# Altium schematic symbol library Voltage Regulator - Switchmode.SchLib: 70 symbols (part 1 of 2)
Pins are listed as number, name and electrical type; pins without a type are passive.

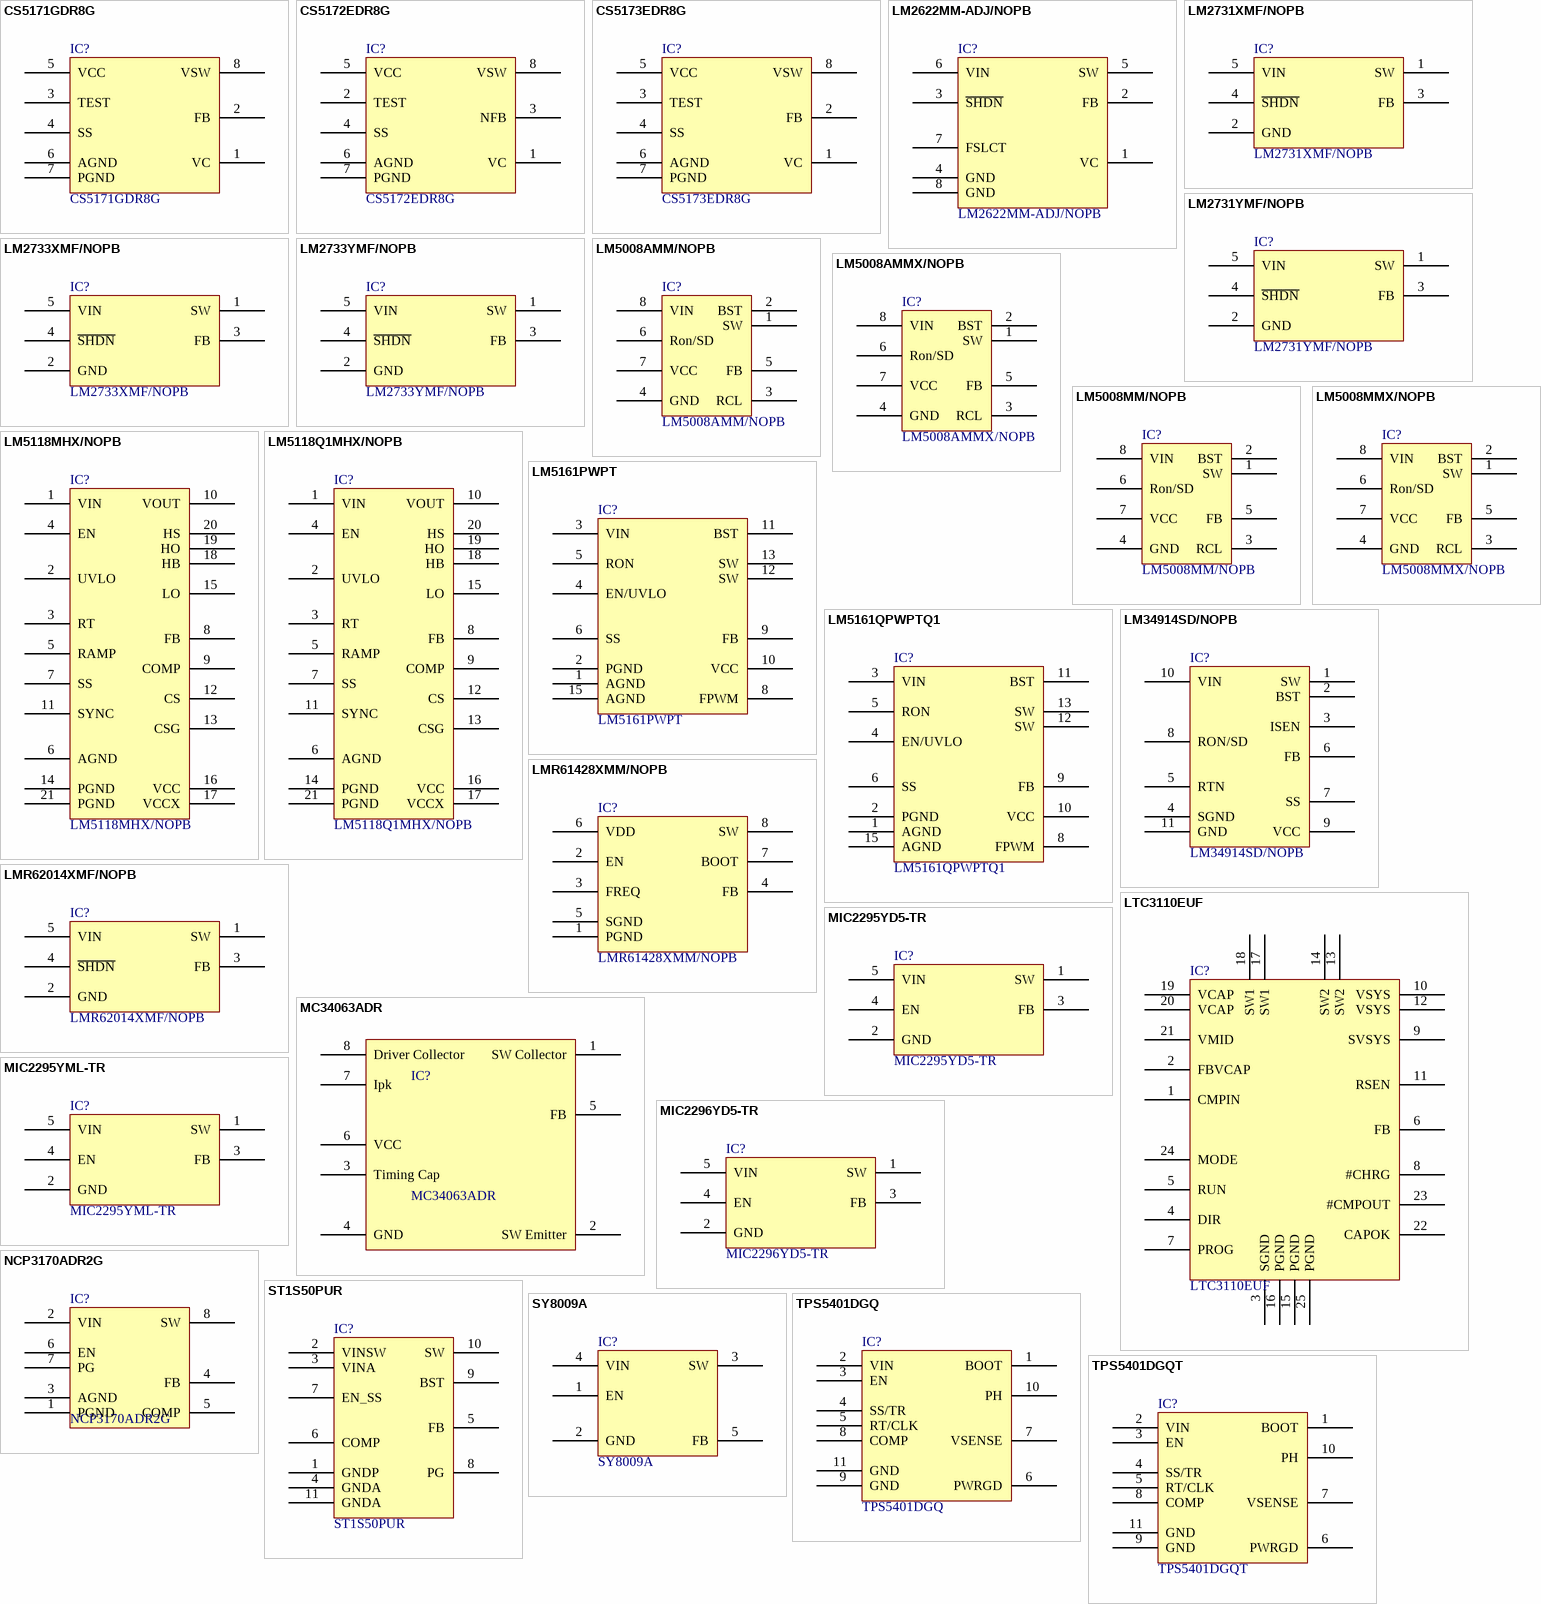
[diagram p0: symbols CS5171GDR8G to TPS5401DGQT]

## CS5171GDR8G
designator IC?
IC REG MULT CONFIG INV ADJ 8SOIC; Manufacturer: ON Semiconductor; Function: Step-Up, Step-Down, Step-Up/Step-Down; Output Configuration: Positive or Negative; Topology: Buck, Boost, Flyback, Forward Converter, SEPIC; Output Type: Adjustable; Number Of Outputs: 1; Voltage - Input (Min): 2.7V; Voltage - Input (Max): 30V; Voltage - Output (Min/Fixed): 1.28V; Voltage - Output (Max): 40V (Switch); Current Output: 1.5A (Switch); Frequency - Switching: 280kHz; Synchronous Rectifier: No; Part Number: CS5171GDR8G; PartId: 9372; Supplier 1: Digi-Key; Supplier Part Number 1: CS5171GDR8GOSTR-ND; ComponentLink1Description: Datasheet; ComponentLink1URL: http://www.onsemi.com/pub_link/Collateral/CS5171-D.PDF; ComponentLink2Description: Digi-Key Listing; ComponentLink2URL: http://www.digikey.com/product-detail/en/CS5171GDR8G/CS5171GDR8GOSTR-ND/918423; Device Package: 8-SOIC (0.154", 3.90mm Width); Price: 0.945; Series: -; Operating Temperature: 0C ~ 125C (TJ)
footprint ON SEMI SO-8
pins: 1 VC, 2 FB, 3 TEST, 4 SS, 5 VCC, 6 AGND, 7 PGND, 8 VSW

## CS5172EDR8G
designator IC?
IC REG MULT CONFIG INV ADJ 8SOIC; Manufacturer: ON Semiconductor; Function: Step-Up, Step-Down, Step-Up/Step-Down; Output Configuration: Positive or Negative; Topology: Buck, Boost, Flyback, Forward Converter, SEPIC; Output Type: Adjustable; Number Of Outputs: 1; Voltage - Input (Min): 2.7V; Voltage - Input (Max): 30V; Voltage - Output (Min/Fixed): -2.45V; Voltage - Output (Max): -40V (Switch); Current Output: 1.5A (Switch); Frequency - Switching: 280kHz; Synchronous Rectifier: No; Part Number: CS5172EDR8G; PartId: 9374; Supplier 1: Digi-Key; Supplier Part Number 1: CS5172EDR8GOSTR-ND; ComponentLink1Description: Datasheet; ComponentLink1URL: http://www.onsemi.com/pub_link/Collateral/CS5171-D.PDF; ComponentLink2Description: Digi-Key Listing; ComponentLink2URL: http://www.digikey.com/product-detail/en/CS5172EDR8G/CS5172EDR8GOSTR-ND/918424; Device Package: 8-SOIC (0.154", 3.90mm Width); Price: 0.972; Series: -; Operating Temperature: -40C ~ 125C (TJ)
footprint ON SEMI SO-8
pins: 1 VC, 2 TEST, 3 NFB, 4 SS, 5 VCC, 6 AGND, 7 PGND, 8 VSW

## CS5173EDR8G
designator IC?
IC REG MULT CONFIG INV ADJ 8SOIC; Manufacturer: ON Semiconductor; Function: Step-Up, Step-Down, Step-Up/Step-Down; Output Configuration: Positive or Negative; Topology: Buck, Boost, Flyback, Forward Converter, SEPIC; Output Type: Adjustable; Number Of Outputs: 1; Voltage - Input (Min): 2.7V; Voltage - Input (Max): 30V; Voltage - Output (Min/Fixed): 1.28V; Voltage - Output (Max): 40V (Switch); Current Output: 1.5A (Switch); Frequency - Switching: 560kHz; Synchronous Rectifier: No; Part Number: CS5173EDR8G; PartId: 9373; Supplier 1: Digi-Key; Supplier Part Number 1: CS5173EDR8GOSTR-ND; ComponentLink1Description: Datasheet; ComponentLink1URL: http://www.onsemi.com/pub_link/Collateral/CS5171-D.PDF; ComponentLink2Description: Digi-Key Listing; ComponentLink2URL: http://www.digikey.com/product-detail/en/CS5173EDR8G/CS5173EDR8GOSTR-ND/918426; Device Package: 8-SOIC (0.154", 3.90mm Width); Price: 0.972; Series: -; Operating Temperature: -40C ~ 125C (TJ)
footprint ON SEMI SO-8
pins: 1 VC, 2 FB, 3 TEST, 4 SS, 5 VCC, 6 AGND, 7 PGND, 8 VSW

## LM2622MM-ADJ/NOPB
designator IC?
IC REG BOOST ADJ 1A 8VSSOP; Manufacturer: Texas Instruments; Function: Step-Up; Output Configuration: Positive; Output Type: Adjustable; Number Of Outputs: 1; Voltage - Input (Min): 2V; Voltage - Input (Max): 12V; Voltage - Output (Min/Fixed): 1.26V; Current Output: 1A (Switch); Frequency - Switching: 600kHz, 1.3MHz; Synchronous Rectifier: No; Part Number: LM2622MM-ADJ/NOPB; PartId: 9371; Supplier 1: Digi-Key; Supplier Part Number 1: LM2622MM-ADJ/NOPBTR-ND; ComponentLink1Description: Datasheet; ComponentLink1URL: http://www.ti.com/lit/ds/symlink/lm2622.pdf; ComponentLink2Description: Digi-Key Listing; ComponentLink2URL: http://www.digikey.com/product-detail/en/LM2622MM-ADJ%2FNOPB/LM2622MM-ADJ%2FNOPBTR-ND/355385; Device Package: 8-TSSOP, 8-MSOP (0.118", 3.00mm Width); Price: 0.9671; Series: -; Operating Temperature: -40C ~ 125C (TJ); Topology: Boost; Voltage - Output (Max): 12V
footprint TI VSSOP-8 DGK
pins: 1 VC, 2 FB, 3 ~{SHDN}, 4 GND, 5 SW, 6 VIN, 7 FSLCT, 8 GND

## LM2731XMF/NOPB
designator IC?
IC REG BOOST ADJ 1.8A SOT23-5; Manufacturer: Texas Instruments; Function: Step-Up; Output Configuration: Positive; Output Type: Adjustable; Number Of Outputs: 1; Voltage - Input (Min): 2.7V; Voltage - Input (Max): 14V; Voltage - Output (Max): 22V (Switch); Current Output: 1.8A (Switch); Frequency - Switching: 1.6MHz; Synchronous Rectifier: No; Part Number: LM2731XMF/NOPB; PartId: 9378; Supplier 1: Digi-Key; Supplier Part Number 1: LM2731XMF/NOPBTR-ND; ComponentLink1Description: Datasheet; ComponentLink1URL: http://www.ti.com/lit/ds/symlink/lm2731.pdf; ComponentLink2Description: Digi-Key Listing; ComponentLink2URL: http://www.digikey.com/product-detail/en/LM2731XMF%2FNOPB/LM2731XMF%2FNOPBTR-ND/565162; Device Package: SC-74A, SOT-753; Price: 1.0125; Series: -; Operating Temperature: -40C ~ 125C (TJ); Topology: Boost; Voltage - Output (Min/Fixed): 2.7V
footprint TI SOT-23-5 DBV
pins: 1 SW, 2 GND, 3 FB, 4 ~{SHDN}, 5 VIN

## LM2731YMF/NOPB
designator IC?
IC REG BOOST ADJ 1.8A SOT23-5; Manufacturer: Texas Instruments; Function: Step-Up; Output Configuration: Positive; Output Type: Adjustable; Number Of Outputs: 1; Voltage - Input (Min): 2.7V; Voltage - Input (Max): 14V; Voltage - Output (Max): 22V (Switch); Current Output: 1.8A (Switch); Frequency - Switching: 600kHz; Synchronous Rectifier: No; Part Number: LM2731YMF/NOPB; PartId: 9379; Supplier 1: Digi-Key; Supplier Part Number 1: LM2731YMF/NOPBTR-ND; ComponentLink1Description: Datasheet; ComponentLink1URL: http://www.ti.com/lit/ds/symlink/lm2731.pdf; ComponentLink2Description: Digi-Key Listing; ComponentLink2URL: http://www.digikey.com/product-detail/en/LM2731YMF%2FNOPB/LM2731YMF%2FNOPBTR-ND/565163; Device Package: SC-74A, SOT-753; Price: 1.0125; Series: -; Operating Temperature: -40C ~ 125C (TJ); Topology: Boost; Voltage - Output (Min/Fixed): 2.7V
footprint TI SOT-23-5 DBV
pins: 1 SW, 2 GND, 3 FB, 4 ~{SHDN}, 5 VIN

## LM2733XMF/NOPB
designator IC?
IC REG BOOST ADJ 1A SOT23-5; Manufacturer: Texas Instruments; Function: Step-Up; Output Configuration: Positive; Output Type: Adjustable; Number Of Outputs: 1; Voltage - Input (Min): 2.7V; Voltage - Input (Max): 14V; Voltage - Output (Max): 40V (Switch); Current Output: 1A (Switch); Frequency - Switching: 1.6MHz; Synchronous Rectifier: No; Part Number: LM2733XMF/NOPB; PartId: 9370; Supplier 1: Digi-Key; Supplier Part Number 1: LM2733XMF/NOPBTR-ND; ComponentLink1Description: Datasheet; ComponentLink1URL: http://www.ti.com/lit/ds/symlink/lm2733.pdf; ComponentLink2Description: Digi-Key Listing; ComponentLink2URL: http://www.digikey.com/product-detail/en/LM2733XMF%2FNOPB/LM2733XMF%2FNOPBTR-ND/565164; Device Package: SC-74A, SOT-753; Price: 0.9562; Series: -; Operating Temperature: -40C ~ 125C (TJ); Topology: Boost; Voltage - Output (Min/Fixed): 2.7V
footprint TI SOT-23-5 DBV
pins: 1 SW, 2 GND, 3 FB, 4 ~{SHDN}, 5 VIN

## LM2733YMF/NOPB
designator IC?
IC REG BOOST ADJ 1A SOT23-5; Manufacturer: Texas Instruments; Function: Step-Up; Output Configuration: Positive; Output Type: Adjustable; Number Of Outputs: 1; Voltage - Input (Min): 2.7V; Voltage - Input (Max): 14V; Voltage - Output (Max): 40V (Switch); Current Output: 1A (Switch); Frequency - Switching: 600kHz; Synchronous Rectifier: No; Part Number: LM2733YMF/NOPB; PartId: 9369; Supplier 1: Digi-Key; Supplier Part Number 1: LM2733YMF/NOPBTR-ND; ComponentLink1Description: Datasheet; ComponentLink1URL: http://www.ti.com/lit/ds/symlink/lm2733.pdf; ComponentLink2Description: Digi-Key Listing; ComponentLink2URL: http://www.digikey.com/product-detail/en/LM2733YMF%2FNOPB/LM2733YMF%2FNOPBTR-ND/565165; Device Package: SC-74A, SOT-753; Price: 0.9562; Series: -; Operating Temperature: -40C ~ 125C (TJ); Topology: Boost; Voltage - Output (Min/Fixed): 2.7V
footprint TI SOT-23-5 DBV
pins: 1 SW, 2 GND, 3 FB, 4 ~{SHDN}, 5 VIN

## LM5008AMM/NOPB
designator IC?
IC REG BUCK ADJ 0.35A 8VSSOP; Manufacturer: Texas Instruments; Function: Step-Down; Output Configuration: Positive; Output Type: Adjustable; Number Of Outputs: 1; Voltage - Input (Min): 6V; Voltage - Input (Max): 95V; Voltage - Output (Min/Fixed): 2.5V; Voltage - Output (Max): 75V; Current Output: 350mA; Frequency - Switching: 50kHz ~ 1.1MHz; Synchronous Rectifier: No; Part Number: LM5008AMM/NOPB; PartId: 27913; Supplier 1: Digi-Key; Supplier Part Number 1: LM5008AMM/NOPBCT-ND; ComponentLink1Description: Datasheet; ComponentLink1URL: //media.digikey.com/pdf/Data%20Sheets/Texas%20Instruments%20PDFs/LM5008A_March2013.pdf; ComponentLink2Description: Digi-Key Listing; ComponentLink2URL: https://www.digikey.com/product-detail/en/texas-instruments/LM5008AMM-NOPB/LM5008AMM-NOPBCT-ND/2075647; Device Package: 8-TSSOP, 8-MSOP (0.118", 3.00mm Width); Price: 2.95; Series: -; Operating Temperature: -40C ~ 125C (TJ); Topology: Buck
footprint TI VSSOP-8 DGK
pins: 1 SW, 2 BST, 3 RCL, 4 GND, 5 FB, 6 Ron/SD, 7 VCC, 8 VIN

## LM5008AMMX/NOPB
designator IC?
IC REG BUCK ADJ 0.35A 8VSSOP; Manufacturer: Texas Instruments; Function: Step-Down; Output Configuration: Positive; Output Type: Adjustable; Number Of Outputs: 1; Voltage - Input (Min): 6V; Voltage - Input (Max): 95V; Voltage - Output (Min/Fixed): 2.5V; Voltage - Output (Max): 75V; Current Output: 350mA; Frequency - Switching: 50kHz ~ 1.1MHz; Synchronous Rectifier: No; Part Number: LM5008AMMX/NOPB; PartId: 27915; Supplier 1: Digi-Key; Supplier Part Number 1: 296-44665-1-ND; ComponentLink1Description: Datasheet; ComponentLink1URL: //media.digikey.com/pdf/Data%20Sheets/Texas%20Instruments%20PDFs/LM5008A_March2013.pdf; ComponentLink2Description: Digi-Key Listing; ComponentLink2URL: https://www.digikey.com/product-detail/en/texas-instruments/LM5008AMMX-NOPB/296-44665-1-ND/6165014; Device Package: 8-TSSOP, 8-MSOP (0.118", 3.00mm Width); Price: 2.95; Series: -; Operating Temperature: -40C ~ 125C (TJ); Topology: Buck
footprint TI VSSOP-8 DGK
pins: 1 SW, 2 BST, 3 RCL, 4 GND, 5 FB, 6 Ron/SD, 7 VCC, 8 VIN

## LM5008MM/NOPB
designator IC?
IC REG BUCK ADJ 0.35A 8VSSOP; Manufacturer: Texas Instruments; Function: Step-Down; Output Configuration: Positive; Output Type: Adjustable; Number Of Outputs: 1; Voltage - Input (Min): 9.5V; Voltage - Input (Max): 95V; Voltage - Output (Min/Fixed): 2.5V; Voltage - Output (Max): 75V; Current Output: 350mA; Frequency - Switching: 50kHz ~ 600kHz; Synchronous Rectifier: No; Part Number: LM5008MM/NOPB; PartId: 27912; Supplier 1: Digi-Key; Supplier Part Number 1: LM5008MM/NOPBCT-ND; ComponentLink1Description: Datasheet; ComponentLink1URL: http://www.ti.com/lit/ds/symlink/lm5008.pdf; ComponentLink2Description: Digi-Key Listing; ComponentLink2URL: https://www.digikey.com/product-detail/en/texas-instruments/LM5008MM-NOPB/LM5008MM-NOPBCT-ND/665720; Device Package: 8-TSSOP, 8-MSOP (0.118", 3.00mm Width); Price: 2.83; Series: -; Operating Temperature: -40C ~ 125C (TJ); Topology: Buck
footprint TI VSSOP-8 DGK
pins: 1 SW, 2 BST, 3 RCL, 4 GND, 5 FB, 6 Ron/SD, 7 VCC, 8 VIN

## LM5008MMX/NOPB
designator IC?
IC REG BUCK ADJ 0.35A 8VSSOP; Manufacturer: Texas Instruments; Function: Step-Down; Output Configuration: Positive; Output Type: Adjustable; Number Of Outputs: 1; Voltage - Input (Min): 9.5V; Voltage - Input (Max): 95V; Voltage - Output (Min/Fixed): 2.5V; Voltage - Output (Max): 75V; Current Output: 350mA; Frequency - Switching: 50kHz ~ 600kHz; Synchronous Rectifier: No; Part Number: LM5008MMX/NOPB; PartId: 27914; Supplier 1: Digi-Key; Supplier Part Number 1: 296-35288-1-ND; ComponentLink1Description: Datasheet; ComponentLink1URL: http://www.ti.com/lit/ds/symlink/lm5008.pdf; ComponentLink2Description: Digi-Key Listing; ComponentLink2URL: https://www.digikey.com/product-detail/en/texas-instruments/LM5008MMX-NOPB/296-35288-1-ND/3738996; Device Package: 8-TSSOP, 8-MSOP (0.118", 3.00mm Width); Price: 2.83; Series: -; Operating Temperature: -40C ~ 125C (TJ); Topology: Buck
footprint TI VSSOP-8 DGK
pins: 1 SW, 2 BST, 3 RCL, 4 GND, 5 FB, 6 Ron/SD, 7 VCC, 8 VIN

## LM5118MHX/NOPB
designator IC?
IC REG CTRLR BCK/BCK-BST 20TSSOP; Manufacturer: Texas Instruments; Function: Step-Down, Step-Up/Step-Down; Output Configuration: Positive; Topology: Buck, Buck-Boost; Output Type: Transistor Driver; Number Of Outputs: 1; Frequency - Switching: 200kHz, 515kHz; Synchronous Rectifier: No; Part Number: LM5118MHX/NOPB; PartId: 15708; Supplier 1: Digi-Key; Supplier Part Number 1: LM5118MHX/NOPBTR-ND; ComponentLink1Description: Datasheet; ComponentLink1URL: http://www.ti.com/lit/ds/symlink/lm5118.pdf; ComponentLink2Description: Digi-Key Listing; ComponentLink2URL: http://www.digikey.com/product-detail/en/texas-instruments/LM5118MHX%2FNOPB/LM5118MHX%2FNOPBTR-ND/1871902; Device Package: 20-TSSOP (0.173", 4.40mm Width) Exposed Pad; Price: 2.6775; Type: DC DC Switching Controllers; Series: -; Operating Temperature: -40C ~ 125C (TJ)
footprint TI HTSSOP-20EP MHX
pins: 1 VIN, 2 UVLO, 3 RT, 4 EN, 5 RAMP, 6 AGND, 7 SS, 8 FB, 9 COMP, 10 VOUT, 11 SYNC, 12 CS, 13 CSG, 14 PGND, 15 LO, 16 VCC, 17 VCCX, 18 HB, 19 HO, 20 HS, 21 PGND

## LM5118Q1MHX/NOPB
designator IC?
IC REG CTRLR BCK/BCK-BST 20TSSOP; Manufacturer: Texas Instruments; Function: Step-Down, Step-Up/Step-Down; Output Configuration: Positive; Topology: Buck, Buck-Boost; Output Type: Transistor Driver; Number Of Outputs: 1; Frequency - Switching: 200kHz, 515kHz; Synchronous Rectifier: No; Part Number: LM5118Q1MHX/NOPB; PartId: 15709; Supplier 1: Digi-Key; Supplier Part Number 1: 296-43600-2-ND; ComponentLink1Description: Datasheet; ComponentLink1URL: http://www.ti.com/lit/ds/symlink/lm5118.pdf; ComponentLink2Description: Digi-Key Listing; ComponentLink2URL: http://www.digikey.com/product-detail/en/texas-instruments/LM5118Q1MHX%2FNOPB/296-43600-2-ND/2179704; Device Package: 20-TSSOP (0.173", 4.40mm Width) Exposed Pad; Price: 3.0937; Type: DC DC Switching Controllers; Series: Automotive, AEC-Q100; Operating Temperature: -40C ~ 125C (TJ)
footprint TI HTSSOP-20EP MHX
pins: 1 VIN, 2 UVLO, 3 RT, 4 EN, 5 RAMP, 6 AGND, 7 SS, 8 FB, 9 COMP, 10 VOUT, 11 SYNC, 12 CS, 13 CSG, 14 PGND, 15 LO, 16 VCC, 17 VCCX, 18 HB, 19 HO, 20 HS, 21 PGND

## LM5161PWPT
designator IC?
IC REG BCK FLYBCK ISO 14HTSSOP; Manufacturer: Texas Instruments; Function: Step-Down; Output Configuration: Positive, Isolation Capable; Topology: Buck, Flyback; Output Type: Adjustable; Number Of Outputs: 1; Voltage - Input (Min): 4.5V; Voltage - Input (Max): 100V; Voltage - Output (Min/Fixed): 2V; Voltage - Output (Max): 92V; Current Output: 1A; Frequency - Switching: 50kHz ~ 1MHz; Synchronous Rectifier: Yes; Part Number: LM5161PWPT; PartId: 21611; Supplier 1: Digi-Key; Supplier Part Number 1: 296-44860-1-ND; ComponentLink1Description: Datasheet; ComponentLink1URL: http://www.ti.com/lit/ds/symlink/lm5161.pdf; ComponentLink2Description: Digi-Key Listing; ComponentLink2URL: http://www.digikey.com/product-detail/en/texas-instruments/LM5161PWPT/296-44860-1-ND/6207398; Device Package: 14-TSSOP (0.173", 4.40mm Width) Exposed Pad; Price: 4.8; Series: -; Operating Temperature: -40C ~ 125C (TJ)
footprint TI HTSSOP-14 PWP
pins: 1 AGND, 2 PGND, 3 VIN, 4 EN/UVLO, 5 RON, 6 SS, 8 FPWM, 9 FB, 10 VCC, 11 BST, 12 SW, 13 SW, 15 AGND

## LM5161QPWPTQ1
designator IC?
IC REG BCK FLYBCK ISO 14HTSSOP; Manufacturer: Texas Instruments; Function: Step-Down; Output Configuration: Positive, Isolation Capable; Topology: Buck, Flyback; Output Type: Adjustable; Number Of Outputs: 1; Voltage - Input (Min): 4.5V; Voltage - Input (Max): 100V; Voltage - Output (Min/Fixed): 2V; Voltage - Output (Max): 92V; Current Output: 1A; Frequency - Switching: 50kHz ~ 1MHz; Synchronous Rectifier: Yes; Part Number: LM5161QPWPTQ1; PartId: 21612; Supplier 1: Digi-Key; Supplier Part Number 1: 296-44861-1-ND; ComponentLink1Description: Datasheet; ComponentLink1URL: http://www.ti.com/lit/ds/symlink/lm5161-q1.pdf; ComponentLink2Description: Digi-Key Listing; ComponentLink2URL: http://www.digikey.com/product-detail/en/texas-instruments/LM5161QPWPTQ1/296-44861-1-ND/6207399; Device Package: 14-TSSOP (0.173", 4.40mm Width) Exposed Pad; Price: 5.56; Series: Automotive, AEC-Q100; Operating Temperature: -40C ~ 150C (TJ)
footprint TI HTSSOP-14 PWP
pins: 1 AGND, 2 PGND, 3 VIN, 4 EN/UVLO, 5 RON, 6 SS, 8 FPWM, 9 FB, 10 VCC, 11 BST, 12 SW, 13 SW, 15 AGND

## LM34914SD/NOPB
designator IC?
IC REG BUCK ADJ 1.25A 10WSON; Manufacturer: Texas Instruments; Function: Step-Down; Output Configuration: Positive; Output Type: Adjustable; Number Of Outputs: 1; Voltage - Input (Min): 8V; Voltage - Input (Max): 40V; Voltage - Output (Min/Fixed): 2.5V; Voltage - Output (Max): 37V; Frequency - Switching: 1.3MHz; Synchronous Rectifier: No; Part Number: LM34914SD/NOPB; PartId: 14587; Supplier 1: Digi-Key; Supplier Part Number 1: LM34914SD/NOPBTR-ND; ComponentLink1Description: Datasheet; ComponentLink1URL: http://www.ti.com/lit/ds/symlink/lm34914.pdf; ComponentLink2Description: Digi-Key Listing; ComponentLink2URL: http://www.digikey.com/product-detail/en/texas-instruments/LM34914SD%2FNOPB/LM34914SD%2FNOPBTR-ND/1836014; Device Package: 10-WFDFN Exposed Pad; Price: 1.526; Type: DC DC Switching Regulators; Series: -; Operating Temperature: -40C ~ 125C (TJ); Topology: Buck; Current Output: 1.25A
footprint TI WSON-10 SD
pins: 1 SW, 2 BST, 3 ISEN, 4 SGND, 5 RTN, 6 FB, 7 SS, 8 RON/SD, 9 VCC, 10 VIN, 11 GND

## LMR61428XMM/NOPB
designator IC?
IC REG BOOST ADJ 2.85A 8VSSOP; Manufacturer: Texas Instruments; Function: Step-Up; Output Configuration: Positive; Output Type: Adjustable; Number Of Outputs: 1; Voltage - Input (Min): 1.2V; Voltage - Input (Max): 14V; Voltage - Output (Min/Fixed): 1.24V; Current Output: 2.85A (Switch); Frequency - Switching: 300kHz ~ 2MHz; Synchronous Rectifier: No; Part Number: LMR61428XMM/NOPB; PartId: 9367; Supplier 1: Digi-Key; Supplier Part Number 1: LMR61428XMM/NOPBTR-ND; ComponentLink1Description: Datasheet; ComponentLink1URL: http://www.ti.com/lit/ds/symlink/lmr61428.pdf; ComponentLink2Description: Digi-Key Listing; ComponentLink2URL: http://www.digikey.com/product-detail/en/LMR61428XMM%2FNOPB/LMR61428XMM%2FNOPBTR-ND/3693587; Device Package: 8-TSSOP, 8-MSOP (0.118", 3.00mm Width); Price: 0.7312; Operating Temperature: -40C ~ 85C (TA); Topology: Boost; Voltage - Output (Max): 14V
footprint TI VSSOP-8 DGK
pins: 1 PGND, 2 EN, 3 FREQ, 4 FB, 5 SGND, 6 VDD, 7 BOOT, 8 SW

## LMR62014XMF/NOPB
designator IC?
IC REG BOOST ADJ 1.8A SOT23-5; Manufacturer: Texas Instruments; Function: Step-Up; Output Configuration: Positive; Output Type: Adjustable; Number Of Outputs: 1; Voltage - Input (Min): 2.7V; Voltage - Input (Max): 14V; Voltage - Output (Min/Fixed): 3V; Voltage - Output (Max): 20V; Current Output: 1.8A (Switch); Frequency - Switching: 1.6MHz; Synchronous Rectifier: No; Part Number: LMR62014XMF/NOPB; PartId: 9368; Supplier 1: Digi-Key; Supplier Part Number 1: LMR62014XMF/NOPBTR-ND; ComponentLink1Description: Datasheet; ComponentLink1URL: http://www.ti.com/lit/ds/symlink/lmr62014.pdf; ComponentLink2Description: Digi-Key Listing; ComponentLink2URL: http://www.digikey.com/product-detail/en/LMR62014XMF%2FNOPB/LMR62014XMF%2FNOPBTR-ND/3179256; Device Package: SC-74A, SOT-753; Price: 0.6187; Operating Temperature: -40C ~ 125C (TJ); Topology: Boost
footprint TI SOT-23-5 DBV
pins: 1 SW, 2 GND, 3 FB, 4 ~{SHDN}, 5 VIN

## LTC3110EUF
designator IC?
IC REG BUCK BOOST ADJ 2A 24QFN; Manufacturer: Analog; Function: Buck, Boost; Output Configuration: Positive; Output Type: Adjustable; Number Of Outputs: 1; Voltage - Input (Min): 1.8V; Voltage - Input (Max): 5.25V; Frequency - Switching: 1.2MHz; Synchronous Rectifier: No; Part Number: LTC3110EUF; ComponentLink1Description: Datasheet; ComponentLink1URL: https://www.analog.com/media/en/technical-documentation/data-sheets/LTC3110.pdf; ComponentLink2Description: Digi-Key Listing; ComponentLink2URL: https://www.digikey.com/product-detail/en/texas-instruments/MC34063ADR/2https://www.digikey.com/en/products/detail/analog-devices-inc/LTC3110EUF-PBF/532148896-17765-2-ND/717431; Device Package: 24QFN; Price: 11.1; Type: DC DC Switching Regulators; Operating Temperature: -40°C ~ 125°C (TJ); Topology: Buck, Boost; Voltage - Output (Min/Fixed): 1.8V; Voltage - Output (Max): 5.25V; Current Output: 2A; Supplier 1: Digi-Key; Supplier Part Number 1: LTC3110EUF#PBF-ND
footprint ANALOG QFN-24 4x4MM (QFN, 24-Leads, Body 4.1x4.1mm (max), Pitch 0.50mm, IPC Medium Density)
pins: 1 CMPIN, 2 FBVCAP, 3 SGND, 4 DIR, 5 RUN, 6 FB, 7 PROG, 8 #CHRG, 9 SVSYS, 10 VSYS, 11 RSEN, 12 VSYS, 13 SW2, 14 SW2, 15 PGND, 16 PGND, 17 SW1, 18 SW1, 19 VCAP, 20 VCAP, 21 VMID, 22 CAPOK, 23 #CMPOUT, 24 MODE, 25 PGND

## MC34063ADR
designator IC?
IC REG BUCK BOOST INV ADJ 8SOIC; Manufacturer: Texas Instruments; Function: Buck, Boost; Output Configuration: Positive; Output Type: Adjustable; Number Of Outputs: 1; Voltage - Input (Min): 3V; Voltage - Input (Max): 40V; Voltage - Output (Min/Fixed): 1.5V; Current Output: 1.5A; Frequency - Switching: 100Khz; Synchronous Rectifier: Yes; Part Number: MC34063ADR; Supplier 1: Digi-Key; Supplier Part Number 1: 296-17765-2-ND; ComponentLink1Description: Datasheet; ComponentLink1URL: http://www.ti.com/lit/ds/symlink/mc33063a.pdf; ComponentLink2Description: Digi-Key Listing; ComponentLink2URL: https://www.digikey.com/product-detail/en/texas-instruments/MC34063ADR/296-17765-2-ND/717431; Device Package: 8SOIC; Price: 0.224; Type: DC DC Switching Regulators; Operating Temperature: 0C ~ 70C (TJ); Topology: Buck, Boost; Voltage - Output (Max): 40V
footprint ON SEMI SO-8 (SOIC, 8-Leads, Body 4.90x3.90mm, Pitch 1.27mm, IPC Medium Density)
pins: 1 SW Collector, 2 SW Emitter, 3 Timing Cap, 4 GND, 5 FB, 6 VCC, 7 Ipk, 8 Driver Collector

## MIC2295YD5-TR
designator IC?
IC REG BOOST ADJ 1.2A TSOT23-5; Manufacturer: Microchip Technology; Function: Step-Up; Output Configuration: Positive; Output Type: Adjustable; Number Of Outputs: 1; Voltage - Input (Min): 2.5V; Voltage - Input (Max): 10V; Voltage - Output (Max): 34V (Switch); Current Output: 1.2A (Switch); Frequency - Switching: 1.2MHz; Synchronous Rectifier: No; Part Number: MIC2295YD5-TR; PartId: 9375; Supplier 1: Digi-Key; Supplier Part Number 1: 576-1080-2-ND; ComponentLink1Description: Datasheet; ComponentLink1URL: http://www.micrel.com/_PDF/mic2295.pdf; ComponentLink2Description: Digi-Key Listing; ComponentLink2URL: http://www.digikey.com/product-detail/en/MIC2295YD5-TR/576-1080-2-ND/771549; Device Package: SOT-23-5 Thin, TSOT-23-5; Price: 0.98; Series: -; Operating Temperature: -40C ~ 125C (TJ); Topology: Boost; Voltage - Output (Min/Fixed): 2.5V
footprint MICREL SOT-23-5 DB5
pins: 1 SW, 2 GND, 3 FB, 4 EN, 5 VIN

## MIC2295YML-TR
designator IC?
IC REG BOOST ADJ 1.2A 8MLF; Manufacturer: Microchip Technology; Function: Step-Up; Output Configuration: Positive; Output Type: Adjustable; Number Of Outputs: 1; Voltage - Input (Min): 2.5V; Voltage - Input (Max): 10V; Voltage - Output (Max): 34V (Switch); Current Output: 1.2A (Switch); Frequency - Switching: 1.2MHz; Synchronous Rectifier: No; Part Number: MIC2295YML-TR; PartId: 9376; Supplier 1: Digi-Key; Supplier Part Number 1: 576-2658-2-ND; ComponentLink1Description: Datasheet; ComponentLink1URL: http://www.micrel.com/_PDF/mic2295.pdf; ComponentLink2Description: Digi-Key Listing; ComponentLink2URL: http://www.digikey.com/product-detail/en/MIC2295YML-TR/576-2658-2-ND/1028515; Device Package: 8-VFDFN Exposed Pad, 8-MLF; Price: 1.08; Series: -; Operating Temperature: -40C ~ 125C (TJ); Topology: Boost; Voltage - Output (Min/Fixed): 2.5V
footprint MICREL SOT-23-5 DB5
pins: 1 SW, 2 GND, 3 FB, 4 EN, 5 VIN

## MIC2296YD5-TR
designator IC?
IC REG BOOST ADJ 1.2A TSOT23-5; Manufacturer: Microchip Technology; Function: Step-Up; Output Configuration: Positive; Output Type: Adjustable; Number Of Outputs: 1; Voltage - Input (Min): 2.5V; Voltage - Input (Max): 10V; Voltage - Output (Max): 34V (Switch); Current Output: 1.2A (Switch); Frequency - Switching: 600kHz; Synchronous Rectifier: No; Part Number: MIC2296YD5-TR; PartId: 9377; Supplier 1: Digi-Key; Supplier Part Number 1: 576-2659-2-ND; ComponentLink1Description: Datasheet; ComponentLink1URL: http://www.microchip.com/mymicrochip/filehandler.aspx?ddocname=en580253; ComponentLink2Description: Digi-Key Listing; ComponentLink2URL: http://www.digikey.com/product-detail/en/MIC2296YD5-TR/576-2659-2-ND/1028518; Device Package: SOT-23-5 Thin, TSOT-23-5; Price: 0.98; Series: -; Operating Temperature: -40C ~ 125C (TJ); Topology: Boost; Voltage - Output (Min/Fixed): 2.5V
footprint MICREL SOT-23-5 DB5
pins: 1 SW, 2 GND, 3 FB, 4 EN, 5 VIN

## NCP3170ADR2G
designator IC?
IC REG BUCK ADJ 3A SYNC 8SOIC; Manufacturer: ON Semiconductor; Function: Step-Down; Output Configuration: Positive; Output Type: Adjustable; Number Of Outputs: 1; Voltage - Input (Min): 4.5V; Voltage - Input (Max): 18V; Voltage - Output (Min/Fixed): 0.8V; Voltage - Output (Max): 17.28V; Frequency - Switching: 500KHz; Synchronous Rectifier: Yes; Part Number: NCP3170ADR2G; Supplier 1: Digi-Key; Supplier Part Number 1: NCP3170ADR2GOSTR-ND; ComponentLink1Description: Datasheet; ComponentLink1URL: http://www.onsemi.com/pub/Collateral/NCP3170-D.PDF; ComponentLink2Description: Digi-Key Listing; ComponentLink2URL: https://www.digikey.com/product-detail/en/on-semiconductor/NCP3170ADR2G/NCP3170ADR2GOSTR-ND/2683804; Device Package: 8-SOIC (0.154", 3.90mm Width); Price: 0.385; Type: DC DC Switching Regulators; Series: -; Operating Temperature: -40°C ~ 85°C (TA); Topology: Buck; Current Output: 3A
footprint ON SEMI SO-8 (SOIC, 8-Leads, Body 4.90x3.90mm, Pitch 1.27mm, IPC Medium Density)
pins: 1 PGND, 2 VIN, 3 AGND, 4 FB, 5 COMP, 6 EN, 7 PG, 8 SW

## ST1S50PUR
designator IC?
IC REG BUCK ADJ 4A SYNC 8VFDFPN; Manufacturer: STMicroelectronics; Function: Step-Down; Output Configuration: Positive; Output Type: Adjustable; Number Of Outputs: 1; Voltage - Input (Min): 4V; Voltage - Input (Max): 18V; Voltage - Output (Min/Fixed): 0.8V; Voltage - Output (Max): 15.84V; Frequency - Switching: 500kHz; Synchronous Rectifier: Yes; Part Number: ST1S50PUR; PartId: 9708; Supplier 1: Digi-Key; Supplier Part Number 1: 497-14667-2-ND; ComponentLink1Description: Datasheet; ComponentLink1URL: http://www.st.com/web/en/resource/technical/document/datasheet/DM00103512.pdf; ComponentLink2Description: Digi-Key Listing; ComponentLink2URL: http://www.digikey.com/product-detail/en/stmicroelectronics/ST1S50PUR/497-14667-2-ND/4841794; Device Package: 10-VFDFN Exposed Pad; Price: 1.0125; Series: -; Operating Temperature: -40C ~ 150C (TJ); Topology: Buck; Current Output: 4A
footprint ST VFPDFN-10
pins: 1 GNDP, 2 VINSW, 3 VINA, 4 GNDA, 5 FB, 6 COMP, 7 EN_SS, 8 PG, 9 BST, 10 SW, 11 GNDA

## SY8009A
designator IC?
IC REG BUCK ADJ 2A SYNC; Manufacturer: Silergy; Function: Step-Down; Output Configuration: Positive; Output Type: Adjustable; Number Of Outputs: 1; Voltage - Input (Min): 3V; Voltage - Input (Max): 5.5V; Voltage - Output (Min/Fixed): 0.768V; Voltage - Output (Max): 5V; Frequency - Switching: 1.5Mhz; Synchronous Rectifier: Yes; Part Number: SY8009A; ComponentLink1Description: Datasheet; ComponentLink1URL: https://www.olimex.com/Products/Breadboarding/BB-PWR-8009/resources/SY8009.pdf; Device Package: SOT-23-6 Thin, TSOT-23-6; Type: DC DC Switching Regulators; Operating Temperature: -40C ~ 85C (TJ); Topology: Buck; Current Output: 2A
footprint SILERGY SOT23-5 (Footprint not found)
pins: 1 EN, 2 GND, 3 SW, 4 VIN, 5 FB

## TPS5401DGQ
designator IC?
IC REG BUCK ADJ 0.5A 10MSOP; Manufacturer: Texas Instruments; Function: Step-Down; Output Configuration: Positive; Output Type: Adjustable; Number Of Outputs: 1; Voltage - Input (Min): 3.5V; Voltage - Input (Max): 42V; Voltage - Output (Min/Fixed): 0.8V; Voltage - Output (Max): 39V; Current Output: 500mA; Frequency - Switching: 100kHz ~ 2.5MHz; Synchronous Rectifier: No; Part Number: TPS5401DGQ; PartId: 21137; Supplier 1: Digi-Key; Supplier Part Number 1: 296-34610-5-ND; ComponentLink1Description: Datasheet; ComponentLink1URL: http://www.ti.com/lit/ds/symlink/tps5401.pdf; ComponentLink2Description: Digi-Key Listing; ComponentLink2URL: https://www.digikey.com/product-detail/en/texas-instruments/TPS5401DGQ/296-34610-5-ND/2600494; Device Package: 10-TFSOP, 10-MSOP (0.118", 3.00mm Width) Exposed Pad; Price: 2.71; Series: SWIFT™, Eco-Mode™; Operating Temperature: -40C ~ 150C (TJ); Topology: Buck
footprint TI MSOP-10 DGQ
pins: 1 BOOT "A bootstrap capacitor is required between BOOT and PH. If the voltage on this capacitor is below the minimum required by the output device, the output is forced to switch off until the capacitor is refreshed.", 2 VIN (power) "Input supply voltage, 3.5 V to 42 V.", 3 EN "Enable pin, internal pullup current source. Pull below 1.2 V to disable. Float to enable. Adjust the input undervoltage lockout with two resistors.", 4 SS/TR "Slow-start and tracking. An external capacitor connected to this pin sets the output rise time. Because the voltage on this pin overrides the internal reference, it can be used for tracking and sequencing.", 5 RT/CLK "Resistor timing and external clock. An internal amplifier holds this pin at a fixed voltage when using an external resistor to ground to set the switching frequency. If the pin is pulled above the PLL upper threshold, a mode (See Datasheet)", 6 PWRGD (oc) "An open-drain output; asserts low if output voltage is low due to thermal shutdown, dropout, overvoltage or EN shutdown.", 7 VSENSE "Inverting node of the transconductance (gm) error amplifier.", 8 COMP "Error amplifier output, and input to the output switch current comparator. Connect frequency compensation components to this pin.", 9 GND (power) "Ground", 10 PH (power) "The source of the internal high-side power MOSFET", 11 GND (power) "GND pin must be electrically connected to the thermal pad on the printed circuit board for proper operation."

## TPS5401DGQT
designator IC?
IC REG BUCK ADJ 0.5A 10MSOP; Manufacturer: Texas Instruments; Function: Step-Down; Output Configuration: Positive; Output Type: Adjustable; Number Of Outputs: 1; Voltage - Input (Min): 3.5V; Voltage - Input (Max): 42V; Voltage - Output (Min/Fixed): 0.8V; Voltage - Output (Max): 39V; Current Output: 500mA; Frequency - Switching: 100kHz ~ 2.5MHz; Synchronous Rectifier: No; Part Number: TPS5401DGQT; PartId: 21136; Supplier 1: Digi-Key; Supplier Part Number 1: 296-28092-2-ND; ComponentLink1Description: Datasheet; ComponentLink1URL: http://www.ti.com/lit/ds/symlink/tps5401.pdf; ComponentLink2Description: Digi-Key Listing; ComponentLink2URL: https://www.digikey.com/product-detail/en/texas-instruments/TPS5401DGQT/296-28092-2-ND/2508256; Device Package: 10-TFSOP, 10-MSOP (0.118", 3.00mm Width) Exposed Pad; Price: 1.76; Series: SWIFT™, Eco-Mode™; Operating Temperature: -40C ~ 150C (TJ); Topology: Buck
footprint TI MSOP-10 DGQ
pins: 1 BOOT "A bootstrap capacitor is required between BOOT and PH. If the voltage on this capacitor is below the minimum required by the output device, the output is forced to switch off until the capacitor is refreshed.", 2 VIN (power) "Input supply voltage, 3.5 V to 42 V.", 3 EN "Enable pin, internal pullup current source. Pull below 1.2 V to disable. Float to enable. Adjust the input undervoltage lockout with two resistors.", 4 SS/TR "Slow-start and tracking. An external capacitor connected to this pin sets the output rise time. Because the voltage on this pin overrides the internal reference, it can be used for tracking and sequencing.", 5 RT/CLK "Resistor timing and external clock. An internal amplifier holds this pin at a fixed voltage when using an external resistor to ground to set the switching frequency. If the pin is pulled above the PLL upper threshold, a mode (See Datasheet)", 6 PWRGD (oc) "An open-drain output; asserts low if output voltage is low due to thermal shutdown, dropout, overvoltage or EN shutdown.", 7 VSENSE "Inverting node of the transconductance (gm) error amplifier.", 8 COMP "Error amplifier output, and input to the output switch current comparator. Connect frequency compensation components to this pin.", 9 GND (power) "Ground", 10 PH (power) "The source of the internal high-side power MOSFET", 11 GND (power) "GND pin must be electrically connected to the thermal pad on the printed circuit board for proper operation."

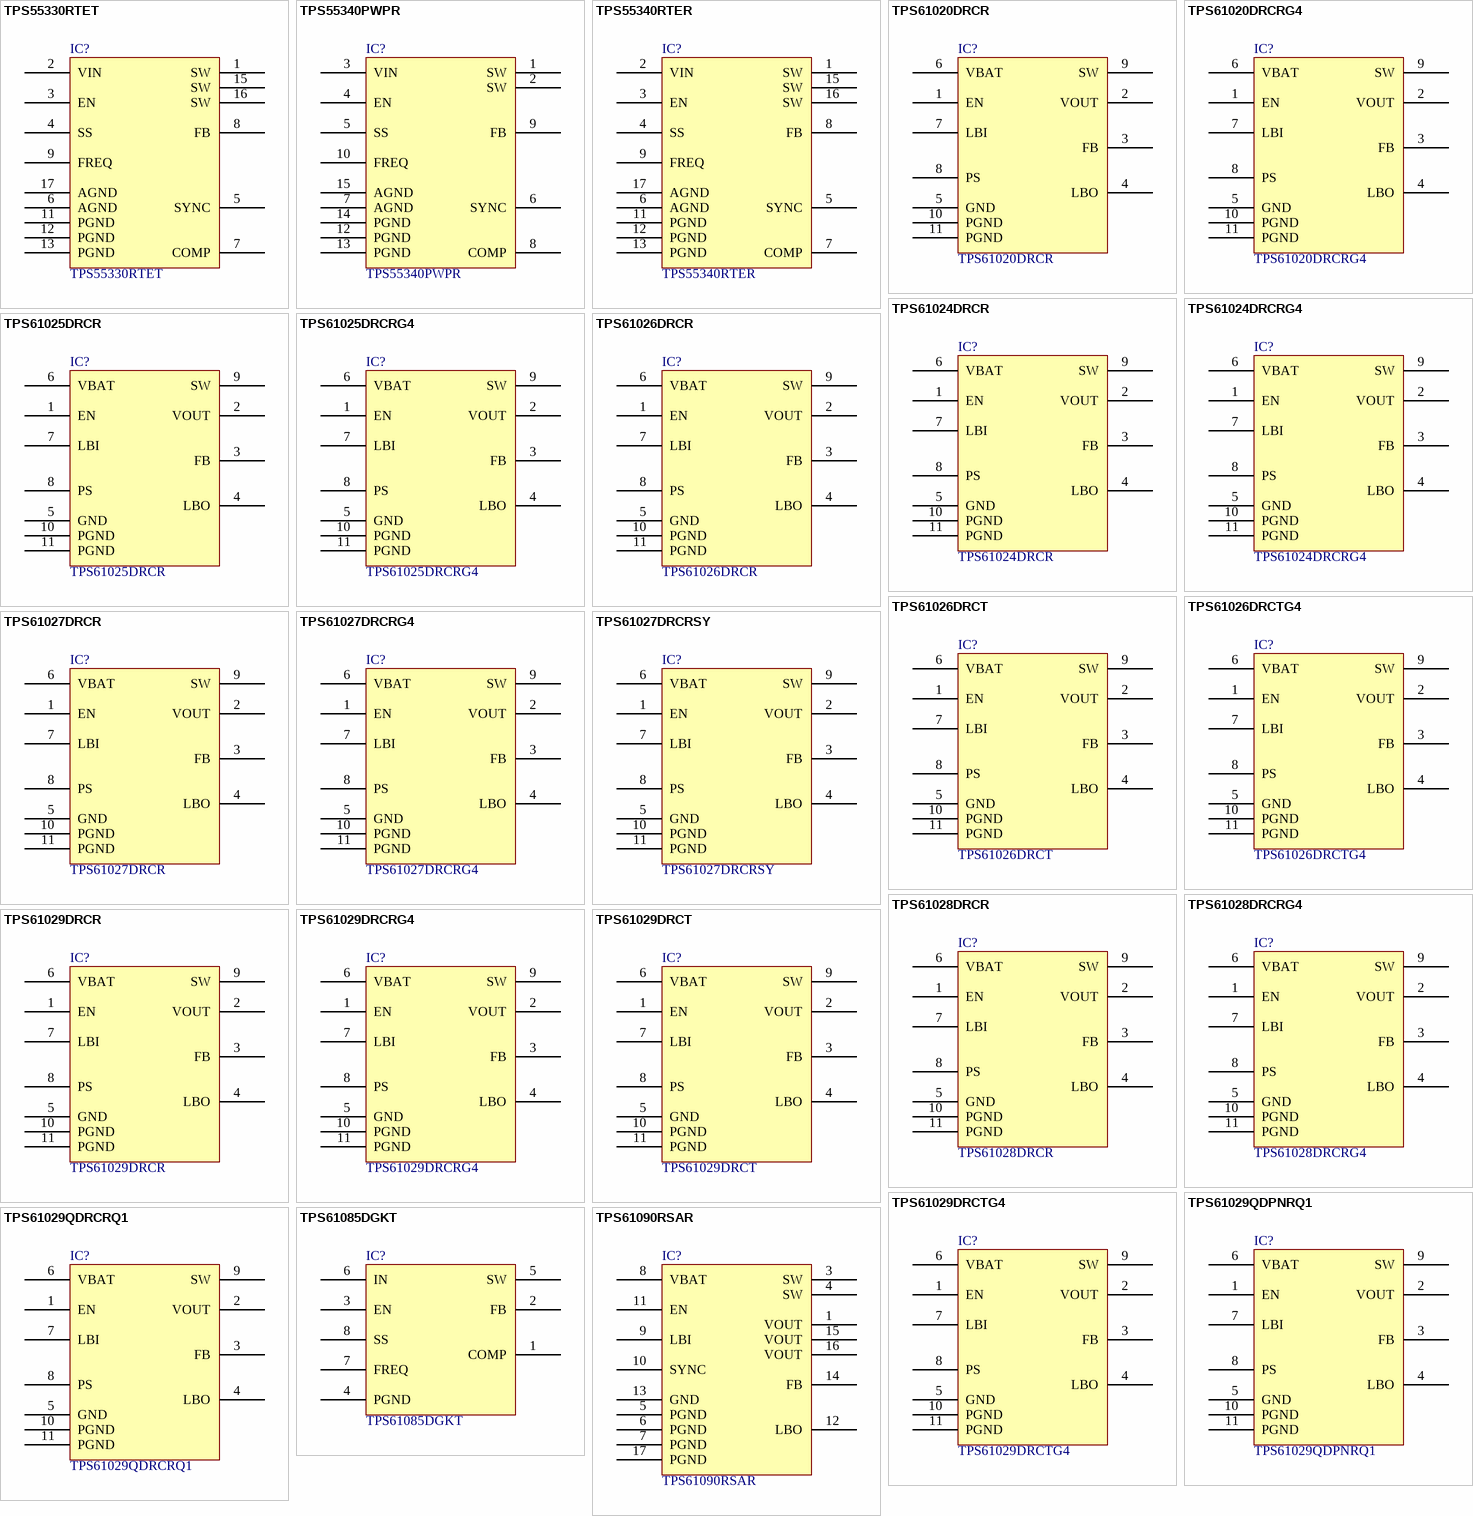
[diagram p1: symbols TPS55330RTET to TPS61090RSAR]

## TPS55330RTET
designator IC?
IC REG MULT CONFG ISO ADJ 16WQFN; Manufacturer: Texas Instruments; Function: Step-Up, Step-Up/Step-Down; Output Configuration: Positive, Isolation Capable; Topology: Boost, Flyback, SEPIC; Output Type: Adjustable; Number Of Outputs: 1; Voltage - Input (Min): 2.9V; Voltage - Input (Max): 16V; Voltage - Output (Max): 22V; Current Output: 5.25A (Switch); Frequency - Switching: 94kHz ~ 1.14MHz; Synchronous Rectifier: No; Part Number: TPS55330RTET; PartId: 16366; Supplier 1: Digi-Key; Supplier Part Number 1: 296-36219-2-ND; ComponentLink1Description: Datasheet; ComponentLink1URL: http://www.ti.com/lit/ds/symlink/tps55330.pdf; ComponentLink2Description: Digi-Key Listing; ComponentLink2URL: http://www.digikey.com/product-detail/en/texas-instruments/TPS55330RTET/296-36219-2-ND/4212800; Device Package: 16-WFQFN Exposed Pad; Price: 3.3466; Type: DC DC Switching Regulators; Series: -; Operating Temperature: -40C ~ 125C (TA); Voltage - Output (Min/Fixed): 2.9V
footprint TI QFN-16 3x3mm RTE
pins: 1 SW, 2 VIN, 3 EN, 4 SS, 5 SYNC, 6 AGND, 7 COMP, 8 FB, 9 FREQ, 11 PGND, 12 PGND, 13 PGND, 15 SW, 16 SW, 17 AGND

## TPS55340PWPR
designator IC?
IC REG MULT CONFIG ISO 14HTSSOP; Manufacturer: Texas Instruments; Function: Step-Up, Step-Up/Step-Down; Output Configuration: Positive, Isolation Capable; Topology: Boost, Flyback, SEPIC; Output Type: Adjustable; Number Of Outputs: 1; Voltage - Input (Min): 2.9V; Voltage - Input (Max): 32V; Voltage - Output (Max): 38V; Current Output: 5.25A (Switch); Frequency - Switching: 94kHz ~ 1.14MHz; Synchronous Rectifier: No; Part Number: TPS55340PWPR; PartId: 16479; Supplier 1: Digi-Key; Supplier Part Number 1: 296-39426-2-ND; ComponentLink1Description: Datasheet; ComponentLink1URL: http://www.ti.com/lit/ds/symlink/tps55340.pdf; ComponentLink2Description: Digi-Key Listing; ComponentLink2URL: http://www.digikey.com/product-detail/en/texas-instruments/TPS55340PWPR/296-39426-2-ND/3727185; Device Package: 14-TSSOP (0.173", 4.40mm Width) Exposed Pad; Price: 2.0812; Type: DC DC Switching Regulators; Series: -; Operating Temperature: -40C ~ 125C (TA); Voltage - Output (Min/Fixed): 2.9V
footprint TI PDSO-14 PWP
pins: 1 SW, 2 SW, 3 VIN, 4 EN, 5 SS, 6 SYNC, 7 AGND, 8 COMP, 9 FB, 10 FREQ, 12 PGND, 13 PGND, 14 PGND, 15 AGND

## TPS55340RTER
designator IC?
IC REG MULT CONFG ISO ADJ 16WQFN; Manufacturer: Texas Instruments; Function: Step-Up, Step-Up/Step-Down; Output Configuration: Positive, Isolation Capable; Topology: Boost, Flyback, SEPIC; Output Type: Adjustable; Number Of Outputs: 1; Voltage - Input (Min): 2.9V; Voltage - Input (Max): 32V; Voltage - Output (Max): 38V; Current Output: 5.25A (Switch); Frequency - Switching: 94kHz ~ 1.14MHz; Synchronous Rectifier: No; Part Number: TPS55340RTER; PartId: 16478; Supplier 1: Digi-Key; Supplier Part Number 1: 296-37677-2-ND; ComponentLink1Description: Datasheet; ComponentLink1URL: http://www.ti.com/lit/ds/symlink/tps55340.pdf; ComponentLink2Description: Digi-Key Listing; ComponentLink2URL: http://www.digikey.com/product-detail/en/texas-instruments/TPS55340RTER/296-37677-2-ND/3503781; Device Package: 16-WFQFN Exposed Pad; Price: 2.0812; Type: DC DC Switching Regulators; Series: -; Operating Temperature: -40C ~ 125C (TA); Voltage - Output (Min/Fixed): 2.9V
footprint TI QFN-16 3x3mm RTE
pins: 1 SW, 2 VIN, 3 EN, 4 SS, 5 SYNC, 6 AGND, 7 COMP, 8 FB, 9 FREQ, 11 PGND, 12 PGND, 13 PGND, 15 SW, 16 SW, 17 AGND

## TPS61020DRCR
designator IC?
IC REG BOOST ADJ 1.5A SYNC 10SON; Manufacturer: Texas Instruments; Function: Step-Up; Output Configuration: Positive; Output Type: Adjustable; Number Of Outputs: 1; Voltage - Input (Max): 6.5V; Current Output: 1.5A (Switch); Frequency - Switching: 600kHz; Part Number: TPS61020DRCR; PartId: 9347; Supplier 1: Digi-Key; Supplier Part Number 1: 296-15752-2-ND; ComponentLink1Description: Datasheet; ComponentLink1URL: http://www.ti.com/lit/ds/symlink/tps61020.pdf; ComponentLink2Description: Digi-Key Listing; ComponentLink2URL: https://www.digikey.com/product-detail/en/TPS61020DRCR/296-15752-2-ND/593898; Device Package: 10-VFDFN Exposed Pad; Price: 0.9; Series: -; Operating Temperature: -40C ~ 85C (TA)
footprint TI PVSON-10 3x3MM DRC
pins: 1 EN, 2 VOUT, 3 FB, 4 LBO, 5 GND, 6 VBAT, 7 LBI, 8 PS, 9 SW, 10 PGND, 11 PGND

## TPS61020DRCRG4
designator IC?
IC REG BOOST ADJ 1.5A SYNC 10SON; Manufacturer: Texas Instruments; Function: Step-Up; Output Configuration: Positive; Output Type: Adjustable; Number Of Outputs: 1; Voltage - Input (Max): 6.5V; Current Output: 1.5A (Switch); Frequency - Switching: 600kHz; Part Number: TPS61020DRCRG4; PartId: 9348; Supplier 1: Digi-Key; Supplier Part Number 1: TPS61020DRCRG4-ND; ComponentLink1Description: Datasheet; ComponentLink1URL: http://www.ti.com/lit/ds/symlink/tps61020.pdf; ComponentLink2Description: Digi-Key Listing; ComponentLink2URL: https://www.digikey.com/product-detail/en/TPS61020DRCRG4/TPS61020DRCRG4-ND/1672113; Device Package: 10-VFDFN Exposed Pad; Price: 0.9; Series: -; Operating Temperature: -40C ~ 85C (TA)
footprint TI PVSON-10 3x3MM DRC
pins: 1 EN, 2 VOUT, 3 FB, 4 LBO, 5 GND, 6 VBAT, 7 LBI, 8 PS, 9 SW, 10 PGND, 11 PGND

## TPS61024DRCR
designator IC?
IC REG BOOST 3V 1.5A SYNC 10SON; Manufacturer: Texas Instruments; Function: Step-Up; Output Configuration: Positive; Output Type: Fixed; Number Of Outputs: 1; Voltage - Input (Max): 6.5V; Current Output: 1.5A (Switch); Frequency - Switching: 600kHz; Part Number: TPS61024DRCR; PartId: 9349; Supplier 1: Digi-Key; Supplier Part Number 1: 296-15753-2-ND; ComponentLink1Description: Datasheet; ComponentLink1URL: http://www.ti.com/lit/ds/symlink/tps61020.pdf; ComponentLink2Description: Digi-Key Listing; ComponentLink2URL: https://www.digikey.com/product-detail/en/TPS61024DRCR/296-15753-2-ND/593900; Device Package: 10-VFDFN Exposed Pad; Price: 0.9; Series: -; Operating Temperature: -40C ~ 85C (TA)
footprint TI PVSON-10 3x3MM DRC
pins: 1 EN, 2 VOUT, 3 FB, 4 LBO, 5 GND, 6 VBAT, 7 LBI, 8 PS, 9 SW, 10 PGND, 11 PGND

## TPS61024DRCRG4
designator IC?
IC REG BOOST 3V 1.5A SYNC 10SON; Manufacturer: Texas Instruments; Function: Step-Up; Output Configuration: Positive; Output Type: Fixed; Number Of Outputs: 1; Voltage - Input (Max): 6.5V; Current Output: 1.5A (Switch); Frequency - Switching: 600kHz; Part Number: TPS61024DRCRG4; PartId: 9350; Supplier 1: Digi-Key; Supplier Part Number 1: TPS61024DRCRG4-ND; ComponentLink1Description: Datasheet; ComponentLink1URL: http://www.ti.com/lit/ds/symlink/tps61020.pdf; ComponentLink2Description: Digi-Key Listing; ComponentLink2URL: https://www.digikey.com/product-detail/en/TPS61024DRCRG4/TPS61024DRCRG4-ND/1672114; Device Package: 10-VFDFN Exposed Pad; Price: 0.9; Series: -; Operating Temperature: -40C ~ 85C (TA)
footprint TI PVSON-10 3x3MM DRC
pins: 1 EN, 2 VOUT, 3 FB, 4 LBO, 5 GND, 6 VBAT, 7 LBI, 8 PS, 9 SW, 10 PGND, 11 PGND

## TPS61025DRCR
designator IC?
IC REG BST 3.3V 1.5A SYNC 10SON; Manufacturer: Texas Instruments; Function: Step-Up; Output Configuration: Positive; Output Type: Fixed; Number Of Outputs: 1; Voltage - Input (Max): 6.5V; Current Output: 1.5A (Switch); Frequency - Switching: 600kHz; Part Number: TPS61025DRCR; PartId: 9351; Supplier 1: Digi-Key; Supplier Part Number 1: 296-15844-2-ND; ComponentLink1Description: Datasheet; ComponentLink1URL: http://www.ti.com/lit/ds/symlink/tps61020.pdf; ComponentLink2Description: Digi-Key Listing; ComponentLink2URL: https://www.digikey.com/product-detail/en/TPS61025DRCR/296-15844-2-ND/600558; Device Package: 10-VFDFN Exposed Pad; Price: 0.9; Series: -; Operating Temperature: -40C ~ 85C (TA)
footprint TI PVSON-10 3x3MM DRC
pins: 1 EN, 2 VOUT, 3 FB, 4 LBO, 5 GND, 6 VBAT, 7 LBI, 8 PS, 9 SW, 10 PGND, 11 PGND

## TPS61025DRCRG4
designator IC?
IC REG BST 3.3V 1.5A SYNC 10SON; Manufacturer: Texas Instruments; Function: Step-Up; Output Configuration: Positive; Output Type: Fixed; Number Of Outputs: 1; Voltage - Input (Max): 6.5V; Current Output: 1.5A (Switch); Frequency - Switching: 600kHz; Part Number: TPS61025DRCRG4; PartId: 9352; Supplier 1: Digi-Key; Supplier Part Number 1: TPS61025DRCRG4-ND; ComponentLink1Description: Datasheet; ComponentLink1URL: http://www.ti.com/lit/ds/symlink/tps61020.pdf; ComponentLink2Description: Digi-Key Listing; ComponentLink2URL: https://www.digikey.com/product-detail/en/TPS61025DRCRG4/TPS61025DRCRG4-ND/1672115; Device Package: 10-VFDFN Exposed Pad; Price: 0.9; Series: -; Operating Temperature: -40C ~ 85C (TA)
footprint TI PVSON-10 3x3MM DRC
pins: 1 EN, 2 VOUT, 3 FB, 4 LBO, 5 GND, 6 VBAT, 7 LBI, 8 PS, 9 SW, 10 PGND, 11 PGND

## TPS61026DRCR
designator IC?
IC REG BOOST 5V 1.5A SYNC 10SON; Manufacturer: Texas Instruments; Function: Step-Up; Output Configuration: Positive; Output Type: Fixed; Number Of Outputs: 1; Voltage - Input (Max): 5.5V; Current Output: 1.5A (Switch); Frequency - Switching: 600kHz; Part Number: TPS61026DRCR; PartId: 9353; Supplier 1: Digi-Key; Supplier Part Number 1: TPS61026DRCR-ND; ComponentLink1Description: Datasheet; ComponentLink1URL: http://www.ti.com/lit/ds/symlink/tps61020.pdf; ComponentLink2Description: Digi-Key Listing; ComponentLink2URL: https://www.digikey.com/product-detail/en/TPS61026DRCR/TPS61026DRCR-ND/1672116; Device Package: 10-VFDFN Exposed Pad; Price: 0.9562; Series: -; Operating Temperature: -40C ~ 85C (TA)
footprint TI PVSON-10 3x3MM DRC
pins: 1 EN, 2 VOUT, 3 FB, 4 LBO, 5 GND, 6 VBAT, 7 LBI, 8 PS, 9 SW, 10 PGND, 11 PGND

## TPS61026DRCT
designator IC?
IC REG BOOST 5V 1.5A SYNC 10SON; Manufacturer: Texas Instruments; Function: Step-Up; Output Configuration: Positive; Output Type: Fixed; Number Of Outputs: 1; Voltage - Input (Max): 5.5V; Current Output: 1.5A (Switch); Frequency - Switching: 600kHz; Part Number: TPS61026DRCT; PartId: 9354; Supplier 1: Digi-Key; Supplier Part Number 1: 296-19558-2-ND; ComponentLink1Description: Datasheet; ComponentLink1URL: http://www.ti.com/lit/ds/symlink/tps61020.pdf; ComponentLink2Description: Digi-Key Listing; ComponentLink2URL: https://www.digikey.com/product-detail/en/TPS61026DRCT/296-19558-2-ND/1004612; Device Package: 10-VFDFN Exposed Pad; Price: 1.76; Series: -; Operating Temperature: -40C ~ 85C (TA)
footprint TI PVSON-10 3x3MM DRC
pins: 1 EN, 2 VOUT, 3 FB, 4 LBO, 5 GND, 6 VBAT, 7 LBI, 8 PS, 9 SW, 10 PGND, 11 PGND

## TPS61026DRCTG4
designator IC?
IC REG BOOST 5V 1.5A SYNC 10SON; Manufacturer: Texas Instruments; Function: Step-Up; Output Configuration: Positive; Output Type: Fixed; Number Of Outputs: 1; Voltage - Input (Max): 5.5V; Current Output: 1.5A (Switch); Frequency - Switching: 600kHz; Part Number: TPS61026DRCTG4; PartId: 9355; Supplier 1: Digi-Key; Supplier Part Number 1: TPS61026DRCTG4-ND; ComponentLink1Description: Datasheet; ComponentLink1URL: http://www.ti.com/lit/ds/symlink/tps61020.pdf; ComponentLink2Description: Digi-Key Listing; ComponentLink2URL: https://www.digikey.com/product-detail/en/TPS61026DRCTG4/TPS61026DRCTG4-ND/1672118; Device Package: 10-VFDFN Exposed Pad; Price: 1.54; Series: -; Operating Temperature: -40C ~ 85C (TA)
footprint TI PVSON-10 3x3MM DRC
pins: 1 EN, 2 VOUT, 3 FB, 4 LBO, 5 GND, 6 VBAT, 7 LBI, 8 PS, 9 SW, 10 PGND, 11 PGND

## TPS61027DRCR
designator IC?
IC REG BOOST 5V 1.5A SYNC 10SON; Manufacturer: Texas Instruments; Function: Step-Up; Output Configuration: Positive; Output Type: Fixed; Number Of Outputs: 1; Voltage - Input (Max): 6.5V; Current Output: 1.5A (Switch); Frequency - Switching: 600kHz; Part Number: TPS61027DRCR; PartId: 9356; Supplier 1: Digi-Key; Supplier Part Number 1: 296-15754-2-ND; ComponentLink1Description: Datasheet; ComponentLink1URL: http://www.ti.com/lit/ds/symlink/tps61020.pdf; ComponentLink2Description: Digi-Key Listing; ComponentLink2URL: https://www.digikey.com/product-detail/en/TPS61027DRCR/296-15754-2-ND/593897; Device Package: 10-VFDFN Exposed Pad; Price: 0.9; Series: -; Operating Temperature: -40C ~ 85C (TA)
footprint TI PVSON-10 3x3MM DRC
pins: 1 EN, 2 VOUT, 3 FB, 4 LBO, 5 GND, 6 VBAT, 7 LBI, 8 PS, 9 SW, 10 PGND, 11 PGND

## TPS61027DRCRG4
designator IC?
IC REG BOOST 5V 1.5A SYNC 10SON; Manufacturer: Texas Instruments; Function: Step-Up; Output Configuration: Positive; Output Type: Fixed; Number Of Outputs: 1; Voltage - Input (Max): 6.5V; Current Output: 1.5A (Switch); Frequency - Switching: 600kHz; Part Number: TPS61027DRCRG4; PartId: 9357; Supplier 1: Digi-Key; Supplier Part Number 1: TPS61027DRCRG4-ND; ComponentLink1Description: Datasheet; ComponentLink1URL: http://www.ti.com/lit/ds/symlink/tps61020.pdf; ComponentLink2Description: Digi-Key Listing; ComponentLink2URL: https://www.digikey.com/product-detail/en/TPS61027DRCRG4/TPS61027DRCRG4-ND/1672119; Device Package: 10-VFDFN Exposed Pad; Price: 0.9; Series: -; Operating Temperature: -40C ~ 85C (TA)
footprint TI PVSON-10 3x3MM DRC
pins: 1 EN, 2 VOUT, 3 FB, 4 LBO, 5 GND, 6 VBAT, 7 LBI, 8 PS, 9 SW, 10 PGND, 11 PGND

## TPS61027DRCRSY
designator IC?
IC REG BOOST 5V 1.5A SYNC 10SON; Manufacturer: Texas Instruments; Function: Step-Up; Output Configuration: Positive; Output Type: Fixed; Number Of Outputs: 1; Voltage - Input (Max): 6.5V; Current Output: 1.5A (Switch); Frequency - Switching: 600kHz; Part Number: TPS61027DRCRSY; PartId: 9358; Supplier 1: Digi-Key; Supplier Part Number 1: TPS61027DRCRSY-ND; ComponentLink1Description: Datasheet; ComponentLink1URL: http://www.ti.com/lit/ds/symlink/tps61027.pdf; ComponentLink2Description: Digi-Key Listing; ComponentLink2URL: https://www.digikey.com/product-detail/en/TPS61027DRCRSY/TPS61027DRCRSY-ND/1907949; Device Package: 10-VFDFN Exposed Pad; Price: 0.9; Series: -; Operating Temperature: -40C ~ 85C (TA)
footprint TI PVSON-10 3x3MM DRC
pins: 1 EN, 2 VOUT, 3 FB, 4 LBO, 5 GND, 6 VBAT, 7 LBI, 8 PS, 9 SW, 10 PGND, 11 PGND

## TPS61028DRCR
designator IC?
IC REG BOOST ADJ 0.8A SYNC 10SON; Manufacturer: Texas Instruments; Function: Step-Up; Output Configuration: Positive; Output Type: Adjustable; Number Of Outputs: 1; Voltage - Input (Max): 6.5V; Current Output: 800mA (Switch); Frequency - Switching: 600kHz; Part Number: TPS61028DRCR; PartId: 9359; Supplier 1: Digi-Key; Supplier Part Number 1: 296-18078-2-ND; ComponentLink1Description: Datasheet; ComponentLink1URL: http://www.ti.com/lit/ds/symlink/tps61020.pdf; ComponentLink2Description: Digi-Key Listing; ComponentLink2URL: https://www.digikey.com/product-detail/en/TPS61028DRCR/296-18078-2-ND/772109; Device Package: 10-VFDFN Exposed Pad; Price: 0.8437; Series: -; Operating Temperature: -40C ~ 85C (TA)
footprint TI PVSON-10 3x3MM DRC
pins: 1 EN, 2 VOUT, 3 FB, 4 LBO, 5 GND, 6 VBAT, 7 LBI, 8 PS, 9 SW, 10 PGND, 11 PGND

## TPS61028DRCRG4
designator IC?
IC REG BOOST ADJ 0.8A SYNC 10SON; Manufacturer: Texas Instruments; Function: Step-Up; Output Configuration: Positive; Output Type: Adjustable; Number Of Outputs: 1; Voltage - Input (Max): 6.5V; Current Output: 800mA (Switch); Frequency - Switching: 600kHz; Part Number: TPS61028DRCRG4; PartId: 9360; Supplier 1: Digi-Key; Supplier Part Number 1: TPS61028DRCRG4-ND; ComponentLink1Description: Datasheet; ComponentLink1URL: http://www.ti.com/lit/ds/symlink/tps61020.pdf; ComponentLink2Description: Digi-Key Listing; ComponentLink2URL: https://www.digikey.com/product-detail/en/TPS61028DRCRG4/TPS61028DRCRG4-ND/1672120; Device Package: 10-VFDFN Exposed Pad; Price: 0.8437; Series: -; Operating Temperature: -40C ~ 85C (TA)
footprint TI PVSON-10 3x3MM DRC
pins: 1 EN, 2 VOUT, 3 FB, 4 LBO, 5 GND, 6 VBAT, 7 LBI, 8 PS, 9 SW, 10 PGND, 11 PGND

## TPS61029DRCR
designator IC?
IC REG BOOST ADJ 1.8A SYNC 10SON; Manufacturer: Texas Instruments; Function: Step-Up; Output Configuration: Positive; Output Type: Adjustable; Number Of Outputs: 1; Voltage - Input (Max): 5.5V; Current Output: 1.8A (Switch); Frequency - Switching: 600kHz; Part Number: TPS61029DRCR; PartId: 9361; Supplier 1: Digi-Key; Supplier Part Number 1: 296-25760-2-ND; ComponentLink1Description: Datasheet; ComponentLink1URL: http://www.ti.com/lit/ds/symlink/tps61029.pdf; ComponentLink2Description: Digi-Key Listing; ComponentLink2URL: https://www.digikey.com/product-detail/en/TPS61029DRCR/296-25760-2-ND/1672121; Device Package: 10-VFDFN Exposed Pad; Price: 0.9562; Series: -; Operating Temperature: -40C ~ 85C (TA)
footprint TI PVSON-10 3x3MM DRC
pins: 1 EN, 2 VOUT, 3 FB, 4 LBO, 5 GND, 6 VBAT, 7 LBI, 8 PS, 9 SW, 10 PGND, 11 PGND

## TPS61029DRCRG4
designator IC?
IC REG BOOST ADJ 1.8A SYNC 10SON; Manufacturer: Texas Instruments; Function: Step-Up; Output Configuration: Positive; Output Type: Adjustable; Number Of Outputs: 1; Voltage - Input (Max): 5.5V; Current Output: 1.8A (Switch); Frequency - Switching: 600kHz; Part Number: TPS61029DRCRG4; PartId: 9362; Supplier 1: Digi-Key; Supplier Part Number 1: TPS61029DRCRG4-ND; ComponentLink1Description: Datasheet; ComponentLink1URL: http://www.ti.com/lit/ds/symlink/tps61020.pdf; ComponentLink2Description: Digi-Key Listing; ComponentLink2URL: https://www.digikey.com/product-detail/en/TPS61029DRCRG4/TPS61029DRCRG4-ND/1672122; Device Package: 10-VFDFN Exposed Pad; Price: 0.9562; Series: -; Operating Temperature: -40C ~ 85C (TA)
footprint TI PVSON-10 3x3MM DRC
pins: 1 EN, 2 VOUT, 3 FB, 4 LBO, 5 GND, 6 VBAT, 7 LBI, 8 PS, 9 SW, 10 PGND, 11 PGND